# Altium footprint library QUTMS_BuzzerLibrary.PcbLib: 1 footprints
Each footprint in its own frame and in the unit in brackets; x right, y up, seen from the top. Pads: shape width x height; smd on the part's side, far side on the other; paste and mask are expansions set on the pad; w line width, h text height; cw(c..) or ccw(c..) is an arc to the next point about the centre after c.
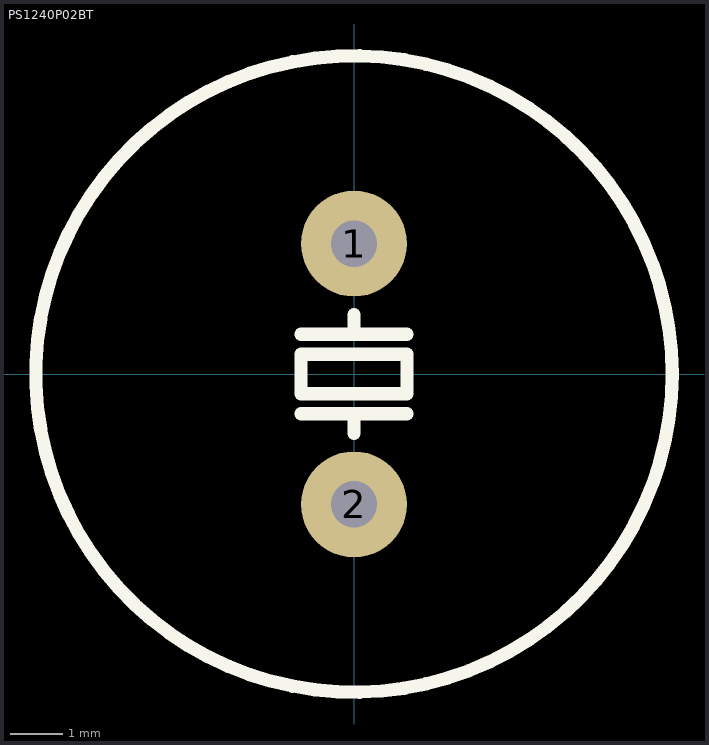
[diagram p0: the footprint, top view; thin cyan lines are the x and y axes]

## PS1240P02BT [mil]
pads (2):
  round 80 hole 35: 1(0,98.43) 2(0,-98.43)
Top Overlay:
  circle w10: c0,0 r240.16
  lines w10: -40,-30 40,-30 ; -40,30 40,30 ; 0,-45 0,-30 ; 0,30 0,45 ; -40,-15 -40,15 40,15 40,-15 -40,-15
3D body "PS1240P02BT--3DModel-STEP-56544.STEP": height 261.22, standoff -565.55, extent -240.15,-240.15 240.16,240.16